# EAGLE library part SN754410 (library magzor)
TI SN754410 quadruple half-H bridge driver
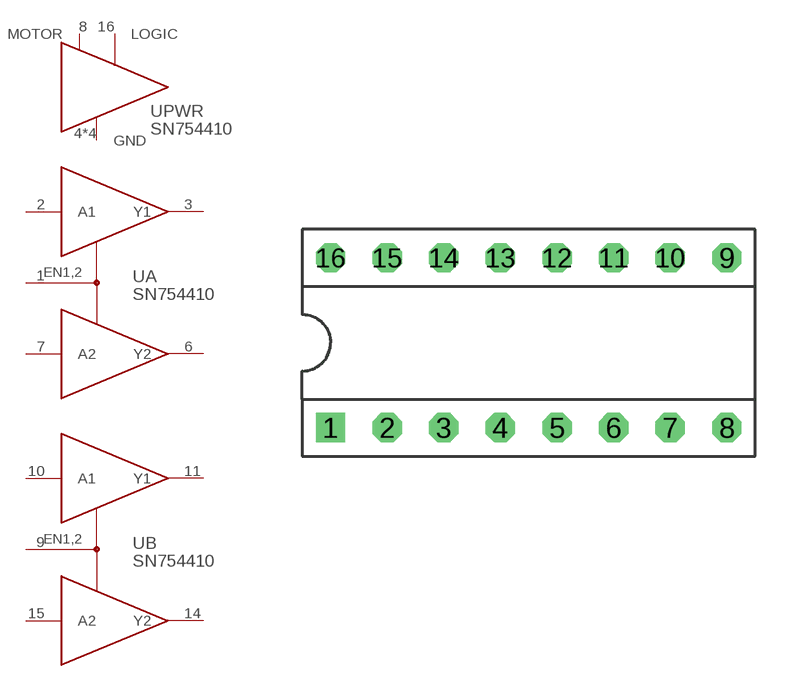
[diagram p26: symbol with the pads of DIP16; footprint DIP16]

Designator prefix U; gates A=HALF-H-BRIDGE B=HALF-H-BRIDGE PWR=QUADRUPLE-HALF-H-BRIDGE-POWER

## SN754410  [DIP16]
1  A:EN1,2
2  A:A1
3  A:Y1
4  PWR:GND
5  PWR:GND
6  A:Y2
7  A:A2
8  PWR:MOTOR
9  B:EN1,2
10  B:A1
11  B:Y1
12  PWR:GND
13  PWR:GND
14  B:Y2
15  B:A2
16  PWR:LOGIC

## Footprint DIP16 (pad centres in mm)
drill 0.813 square: 1 -8.89,-3.81
drill 0.813 octagon: 2 -6.35,-3.81; 3 -3.81,-3.81; 4 -1.27,-3.81; 5 1.27,-3.81; 6 3.81,-3.81; 7 6.35,-3.81; 8 8.89,-3.81; 9 8.89,3.81; 10 6.35,3.81; 11 3.81,3.81; 12 1.27,3.81; 13 -1.27,3.81; 14 -3.81,3.81; 15 -6.35,3.81; 16 -8.89,3.81